# EAGLE library part ICN2012 (library ICN2012)
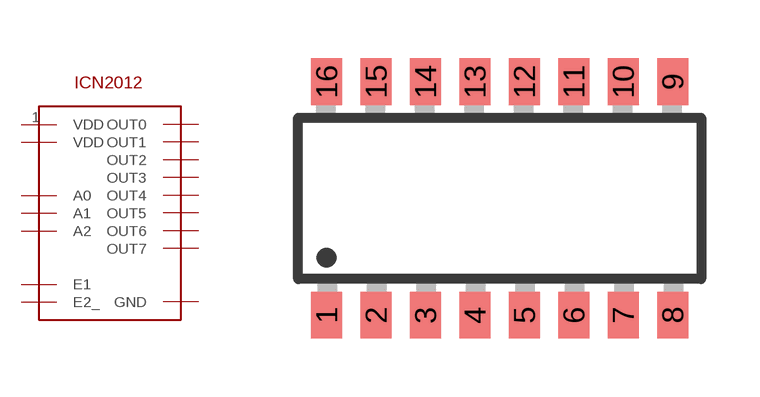
[diagram p0: symbol with the pads of SOP16; footprint SOP16]

Designator prefix U

## ICN2012  [SOP16]
1  VDD
2  A2
3  OUT0
4  OUT1
5  OUT2
6  OUT3
7  E1
8  GND
9  VDD
10  E2_
11  OUT4
12  OUT5
13  OUT6
14  OUT7
15  A0
16  A1

## Footprint SOP16 (pad centres in mm)
SOP 16 - AQS21, AQS22, AQS610TS Series NAiS Source: http://www.mew-europe.com/.. pti_en.pdf
smd 0.8 x 1.2: 1 -4.445,-3; 2 -3.175,-3; 3 -1.905,-3; 4 -0.635,-3; 5 0.635,-3; 6 1.905,-3; 7 3.175,-3; 8 4.445,-3; 9 4.445,3; 10 3.175,3; 11 1.905,3; 12 0.635,3; 13 -0.635,3; 14 -1.905,3; 15 -3.175,3; 16 -4.445,3